# EAGLE library part USBLC6-2SC6 (library ICs)
Very low capacitance ESD protection
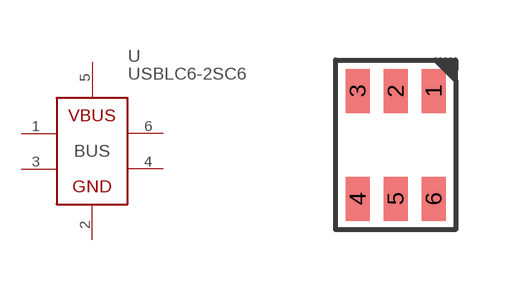
[diagram p64: symbol with the pads of SOT23-6; footprint SOT23-6]

Designator prefix U

## USBLC6-2SC6 (DIGIKEY: 497-11882-1-ND; HEIGHT: 1.5; PRICE_PER: 0.38; VALUE: USBLC6-2SC6)  [SOT23-6]
1  D+_IN
2  GND
3  D-_IN
4  D-OUT
5  VBUS
6  D+_OUT

## Footprint SOT23-6 (pad centres in mm)
smd 0.6 x 1.1: 1 0.95,1.35; 2 0,1.35; 3 -0.95,1.35; 4 -0.95,-1.35; 5 0,-1.35; 6 0.95,-1.35